# EAGLE library part LATTICE-M4A-6432 (library Transputer)
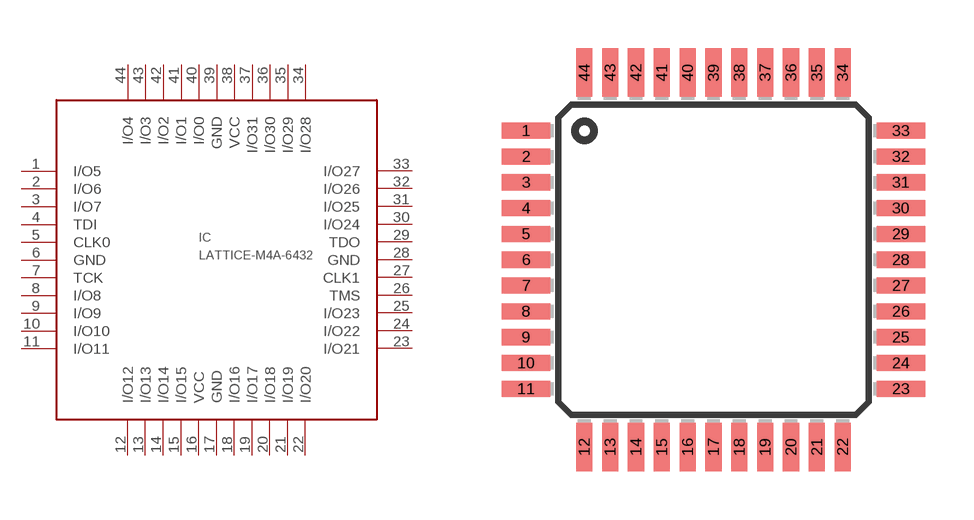
[diagram p3: symbol with the pads of TQFP-44; footprint TQFP-44]

Designator prefix IC

## LATTICE-M4A-6432  [TQFP-44]
1  I/O5  hiz
2  I/O6  hiz
3  I/O7  hiz
4  TDI  in
5  CLK0  in
6  GND  pwr
7  TCK  in
8  I/O8  hiz
9  I/O9  hiz
10  I/O10  hiz
11  I/O11  hiz
12  I/O12  hiz
13  I/O13  hiz
14  I/O14  hiz
15  I/O15  hiz
16  VCC  pwr
17  GND  pwr
18  I/O16  hiz
19  I/O17  hiz
20  I/O18  hiz
21  I/O19  hiz
22  I/O20  hiz
23  I/O21  hiz
24  I/O22  hiz
25  I/O23  hiz
26  TMS  out
27  CLK1  in
28  GND  pwr
29  TDO  out
30  I/O24  hiz
31  I/O25  hiz
32  I/O26  hiz
33  I/O27  hiz
34  I/O28  hiz
35  I/O29  hiz
36  I/O30  hiz
37  I/O31  hiz
38  VCC  pwr
39  GND  pwr
40  I/O0  hiz
41  I/O1  hiz
42  I/O2  hiz
43  I/O3  hiz
44  I/O4  hiz

## Footprint TQFP-44 (pad centres in mm)
smd 1.5 x 0.5: 1 -5.8,4; 2 -5.8,3.2; 3 -5.8,2.4; 4 -5.8,1.6; 5 -5.8,0.8; 6 -5.8,0; 7 -5.8,-0.8; 8 -5.8,-1.6; 9 -5.8,-2.4; 10 -5.8,-3.2; 11 -5.8,-4; 23 5.8,-4; 24 5.8,-3.2; 25 5.8,-2.4; 26 5.8,-1.6; 27 5.8,-0.8; 28 5.8,0; 29 5.8,0.8; 30 5.8,1.6; 31 5.8,2.4; 32 5.8,3.2; 33 5.8,4
smd 0.5 x 1.5: 12 -4,-5.8; 13 -3.2,-5.8; 14 -2.4,-5.8; 15 -1.6,-5.8; 16 -0.8,-5.8; 17 0,-5.8; 18 0.8,-5.8; 19 1.6,-5.8; 20 2.4,-5.8; 21 3.2,-5.8; 22 4,-5.8; 34 4,5.8; 35 3.2,5.8; 36 2.4,5.8; 37 1.6,5.8; 38 0.8,5.8; 39 0,5.8; 40 -0.8,5.8; 41 -1.6,5.8; 42 -2.4,5.8; 43 -3.2,5.8; 44 -4,5.8